# Altium schematic symbol library CommonElements.SchLib: 37 symbols
Pins are listed as number, name and electrical type; pins without a type are passive.

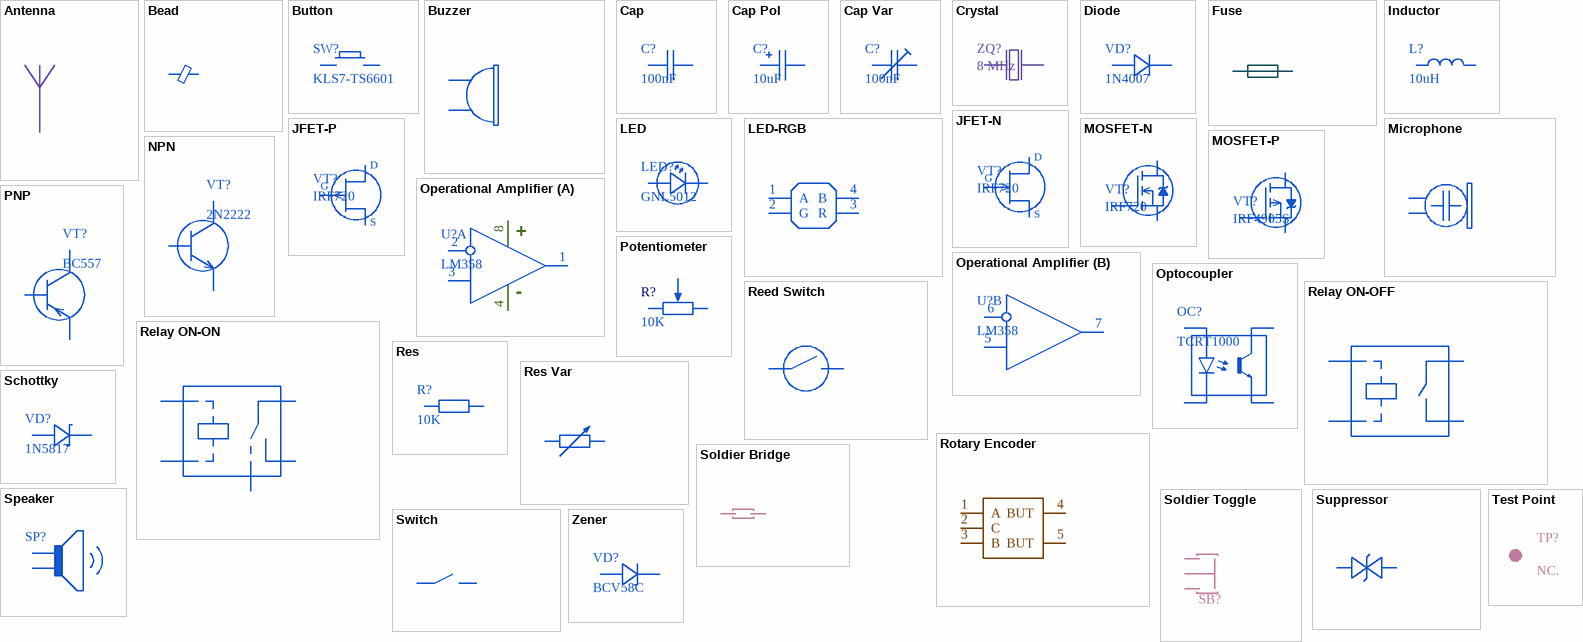
[diagram p0: symbols Antenna to Zener]

## Antenna
designator W?, comment IPX1
Value: 2.4 GHz; Name: IPX1; Case: DNP; Part Number: N/A
pins: 1

## Bead
designator FB?, comment 10uH
Tolerance: 5%; Value: 10uH; Case: DNP; Part Number: N/A
footprint _2-PAD-1L
footprint _2-PAD-TH
footprint L0402
footprint L0201
footprint L0603
footprint L1206
footprint L0805
pins: 1, 2

## Button
designator SW?, comment KLS7-TS6601
Name: KLS7-TS6601; Case: DNP; Part Number: N/A
footprint BUT-PTH-6MM
footprint BUT-SMD-8X6.2MM
footprint BUT-SMD-6MM
pins: 1 Q1, 2 Q1 hidden, 3 Q2, 4 Q2 hidden

## Buzzer
designator BUZ?, comment BUZZER
Name: BUZZER; Case: DNP; Part Number: N/A
footprint BUZZER-S5.08MM-D10.5MM
footprint _2-PAD-1L
footprint _2-PAD-TH
footprint BUZZER-S7.62MM-D10.5MM
pins: 1, 2

## Cap
designator C?, comment 100nF
Voltage: 250V; Tolerance: 5%; Value: 100nF; Case: DNP; Part Number: N/A
footprint C0402
footprint C0805
footprint CAP_CER-5.08MM-CIR-V
footprint C0603
footprint C1206
footprint CAP_CER-5.08MM-CUBE-V
footprint C0201
pins: 1 61, 2 62

## Cap Pol
designator C?, comment 10uF
Voltage: 25V; Tolerance: 5%; Value: 10uF; Case: DNP; Part Number: N/A
footprint CAP_TAN-A
footprint CAP_TAN-D
footprint CAP_TAN-C
footprint CAP_TAN-B
footprint CAP_ALSMD-8X10.5MM
footprint CAP_ALSMD-10x10.5MM
footprint CAP_ALSMD-6.3x5.4MM
footprint CAP_ALSMD-4X5.4MM
footprint CAP_POL-2.54MM-D5MM-H10MM-H-H
footprint CAP_POL-2.54MM-D5MM-H10MM-V
footprint CAP_POL-5.08MM-D8MM-H10MM-V
footprint CAP_POL-5.08MM-D8MM-H15MM-H-H
footprint CAP_POL-5.08MM-D10MM-H16MM-H-H
footprint CAP_POL-5.08MM-D10MM-H16MM-H-V
pins: 1 61, 2 62

## Cap Var
designator С?, comment 100nF
Voltage: 250V; Tolerance: 5%; Value: 100nF; Case: DNP; Part Number: N/A
footprint 3006
footprint 3296W
footprint _2-PAD-1L
footprint _2-PAD-TH
pins: 1 61, 2 62

## Crystal
designator ZQ?, comment 8 MHz
Name: HC49SM; Tolerance: 0.001%; Value: 8 MHz; Case: DNP; Part Number: N/A
footprint NX3215SA
footprint HC-49
footprint NX5032GA
footprint SMD0503C2
footprint HC-49SM
footprint 7A (SMD Glass Sealing Crystals)
pins: 1, 2

## Diode
designator VD?, comment 1N4007
Name: 1N4007; Case: DNP; Part Number: N/A
footprint AXIAL10D-BL
footprint AXIAL10D-TR
footprint AXIAL12D-BL
footprint SOD-323
footprint SOD-123FL
footprint SOD-128
footprint SOD-523 (SSMini2)
footprint SMA
footprint SMB
footprint SMC
pins: 1, 2

## Fuse
designator FS?, comment FH-102C
Current: 10A; Name: FH-102C; Case: DNP; Part Number: N/A
footprint FUSE-5X22.5MM
footprint _2-PAD-1L
footprint _2-PAD-TH
pins: 1, 2

## Inductor
designator L?, comment 10uH
Tolerance: 5%; Value: 10uH; Case: DNP; Part Number: N/A
footprint AXIAL10L
footprint L0805
footprint L0201
footprint L0402
footprint L0603
footprint L1206
footprint L-5.08MM-10X17MM-H-H
footprint THROTTLE-CT94-2
footprint 0630 (06030 Power Inductor)
footprint 1040 (10040 Power Inductor)
pins: 1 3, 2 4

## JFET-N
designator VT?, comment IRF720
Name: IRF720; Case: DNP; Part Number: N/A
footprint TO-220-H
footprint TO-220-V
footprint SOT-23-123
footprint SOT-223-24
footprint TO-92-123-L
footprint TO-92-123-T
footprint TO-92-321-L
footprint TO-92-321-T
footprint SOT-23-312
pins: 1 G, 2 D, 3 S

## JFET-P
designator VT?, comment IRF720
Name: IRF720; Case: DNP; Part Number: N/A
footprint TO-220-H
footprint TO-220-V
footprint SOT-23-312
footprint SOT-223-24
footprint TO-92-123-L
footprint TO-92-123-T
footprint TO-92-321-L
footprint TO-92-321-T
footprint SOT-23-123
pins: 1 G, 2 D, 3 S

## LED
designator LED?, comment GNL5012
Name: GNL5012; Case: DNP; Part Number: N/A
footprint LED0603
footprint LED-BLUE-2.54MM-D5MM-H17MM
footprint LED-BLUE-2.54MM-D5MM
footprint LED-RED-2.54MM-D5MM-H17MM
footprint LED-RED-2.54MM-D5MM
footprint LED-GREEN-2.54MM-D5MM-H17MM
footprint LED-GREEN-2.54MM-D5MM
footprint LED-YELLOW-2.54MM-D5MM-H17MM
footprint LED-YELLOW-2.54MM-D5MM
footprint LED-WHITE-2.54MM-D5MM-H17MM
footprint LED-WHITE-2.54MM-D5MM
footprint LED-PURPLE-2.54MM-D5MM
footprint LED-PURPLE-2.54MM-D5MM-H17MM
footprint _2-PAD-TH
footprint _2-PAD-1L
footprint LED-BLUE-2.54MM-D3MM
footprint LED-BLUE-2.54MM-D3MM-H15MM
footprint LED-GREEN-2.54MM-D3MM
footprint LED-GREEN-2.54MM-D3MM-H15MM
footprint LED-RED-2.54MM-D3MM-H15MM
footprint LED-RED-2.54MM-D3MM
footprint LED-PURPLE-2.54MM-D3MM-H15MM
footprint LED-PURPLE-2.54MM-D3MM
footprint LED-WHITE-2.54MM-D3MM-H15MM
footprint LED-WHITE-2.54MM-D3MM
footprint LED-YELLOW-2.54MM-D3MM
footprint LED-YELLOW-2.54MM-D3MM-H15MM
pins: 1, 2

## LED-RGB
designator LED?, comment 3528
Name: 3528; Case: DNP; Part Number: N/A
footprint LED-1010
footprint LED-3528
footprint _4-PAD-TH-SQ
footprint _4-PAD-1L
footprint _4-PAD-TH
pins: 1 A, 2 G, 3 R, 4 B

## Microphone
designator BF?, comment HMO0603B
Name: HMO0603B; Case: DNP; Part Number: N/A
footprint _2-PAD-1L
footprint _2-PAD-TH
pins: 1, 2

## MOSFET-N
designator VT?, comment IRF720
Name: IRF720; Case: DNP; Part Number: N/A
footprint TO-220-H
footprint TO-220-V
footprint SOT-23-123
footprint SOT-223-24
footprint SOT-23-312
footprint TO-92-123-L
footprint TO-92-123-T
footprint TO-92-321-L
footprint TO-92-321-T
footprint D2PAK-123
footprint D2PAK-132
footprint DPAK-123 (TO-252)
footprint DPAK-132 (TO-252)
pins: 1 G, 2 S, 3 D

## MOSFET-P
designator VT?, comment IRF4905S
Name: IRF4905S; Case: DNP; Part Number: N/A
footprint TO-220-H
footprint TO-220-V
footprint SOT-23-123
footprint SOT-223-24
footprint SOT-23-312
footprint TO-92-123-L
footprint TO-92-123-T
footprint TO-92-321-L
footprint TO-92-321-T
footprint D2PAK-123
footprint D2PAK-132
footprint DPAK-123 (TO-252)
footprint DPAK-132 (TO-252)
pins: 1 G, 2 S, 3 D

## NPN
designator VT?, comment 2N2222
Name: 2N2222; Case: DNP; Part Number: N/A
footprint TO-92-123-L
footprint TO-92-123-T
footprint SOT-23-123
footprint SOT-23-312
footprint TO-92-321-L
footprint TO-92-321-T
pins: 1, 2, 3

## Operational Amplifier
designator U?, comment LM358
Name: LM358; Case: DNP; Part Number: N/A
footprint SOIC8
footprint DIP8
part A pins: 1, 2 -, 3, 4 -, 8 +
part B pins: 5, 6 -, 7

## Optocoupler
designator OC?, comment TCRT1000
Name: TCRT1000; Case: DNP; Part Number: N/A
footprint TCRT1000-1.27MM
footprint DIP4
footprint DIP4-WHITE
pins: 1, 2, 3 4, 4 3

## PNP
designator VT?, comment BC557
Name: BC557; Case: DNP; Part Number: N/A
footprint TO-92-123-L
footprint TO-92-123-T
footprint SOT-23-123
footprint SOT-23-312
footprint TO-92-321-L
footprint TO-92-321-T
pins: 1 9, 2 10, 3 11

## Potentiometer
designator R?, comment 10K
Part Number: N; Name: P0915N-FC15BR10K; Tolerance: 5%; Value: 10K; Case: DNP
pins: 1, 2, 3

## Reed Switch
designator SW?, comment MK16-B-2
Name: MK16-B-2; Case: DNP; Part Number: N/A
footprint _2-PAD-1L
footprint _2-PAD-TH
pins: 1, 2

## Relay ON-OFF
designator RL?, comment SRD-12VDC-SLA
Name: SRD-12VDC-SLA; Case: DNP; Part Number: N/A
footprint SRD-XXVDC-SLA
footprint SRD-XXVDC-SLB
pins: 1, 2, 3, 4

## Relay ON-ON
designator RL?, comment NRP05-A-12D
Name: NRP05-A-12D; Case: DNP; Part Number: N/A
footprint NRP05-C
footprint SRD-XXVDC-SLC
pins: 1, 2, 3, 4, 5

## Res
designator R?, comment 10K
Tolerance: 5 %; Value: 10K; Case: DNP; Part Number: N/A
footprint R0805
footprint R0603
footprint R0402
footprint R1206
footprint AXIAL12R
footprint AXIAL10R
footprint R0201
pins: 1 2, 2

## Res Var
designator R?, comment 10K
Tolerance: 5%; Value: 10K; Case: DNP; Part Number: N/A
footprint _2-PAD-1L
footprint _2-PAD-TH
pins: 1 2, 3 2

## Rotary Encoder
designator U?, comment EC-11
Name: EC-11; Case: DNP; Part Number: N/A
footprint EC11
pins: 1 A, 2 C, 3 B, 4 BUT, 5 BUT

## Schottky
designator VD?, comment 1N5817
Name: 1N5817; Case: DNP; Part Number: N/A
footprint AXIAL10D-BL
footprint AXIAL10D-TR
footprint SOD-323
footprint SOD-123FL
footprint SOD-523 (SSMini2)
footprint SOD-128
footprint AXIAL12D-BL
footprint SMA
footprint SMB
footprint SMC
pins: 1, 2

## Soldier Bridge
designator SB?, comment Open
footprint SOLDBR
footprint 2X1F-H8.5MM (DS1021)
pins: 1, 2

## Soldier Toggle
designator SB?, comment Open
footprint SOLDBR-3
footprint 3X1F-H8.5MM (DS1021)
pins: 1, 2, 3

## Speaker
designator SP?, comment 40KS08P  (value not drawn)
Name: 40KS08P; Case: DNP; Part Number: N/A
footprint SPEAKER-7.62MM-D20MM
footprint _2-PAD-TH
footprint _2-PAD-1L
pins: 1 19, 2 20

## Suppressor
designator VD?, comment PESD3V3S1UB.115
Name: PESD3V3S1UB.115; Case: DNP; Part Number: N/A
footprint AXIAL10D-BL
footprint AXIAL10D-TR
footprint SOD-323
footprint SOD-123FL
footprint SOD-523 (SSMini2)
footprint SOD-128
footprint AXIAL12D-BL
footprint SMA
footprint SMB
footprint SMC
pins: 1, 2

## Switch
designator SW?, comment KN3(C)-101P
Name: KN3(C)-101P; Case: DNP; Part Number: N/A
footprint DIP_SW1
pins: 1, 2

## Test Point
designator TP?, comment NC.
footprint _1-PAD (1.8mm x 1.8mm / 1mm)
footprint 1X1F-H8.5MM (DS1021)
footprint 1X1F-H15MM (DS1021)
footprint 1X1F-S2MM-H8MM (DS1025-01)
footprint 1X1F-S2MM-H12.2MM (DS1025-01)
footprint 1X1FR-H6MM-L6MM (DS1022)
footprint 1X1FR-S2MM-H4.5MM-L6MM (DS1025-19)
footprint 1X1M-H5MM (DS1023)
footprint 1X1M-H8.5MM (DS1023)
footprint 1X1M-S2MM-H4.3MM (DS1026-01)
footprint 1X1MR-H5.8MM-L10.2MM (DS1024)
footprint 1X1MR-S2MM-H2.8MM-L4.3MM (DS1026-02)
footprint TEST_POINT-D1MM
footprint TEST_POINT-D1.5MM
footprint TEST_POINT-D2MM
pins: 1

## Zener
designator VD?, comment BCV58C
Name: BCV58C; Case: DNP; Part Number: N/A
footprint SOD-323
footprint SOD-123FL
footprint SOD-523 (SSMini2)
footprint SOD-128
footprint AXIAL12D-BL
footprint AXIAL10D-BL
footprint AXIAL10D-TR
footprint SMA
footprint SMB
footprint SMC
pins: 1, 2